# Altium footprint library MEM20800012800A.PcbLib: 1 footprints
Each footprint in its own frame and in the unit in brackets; x right, y up, seen from the top. Pads: shape width x height; smd on the part's side, far side on the other; paste and mask are expansions set on the pad; w line width, h text height; cw(c..) or ccw(c..) is an arc to the next point about the centre after c.
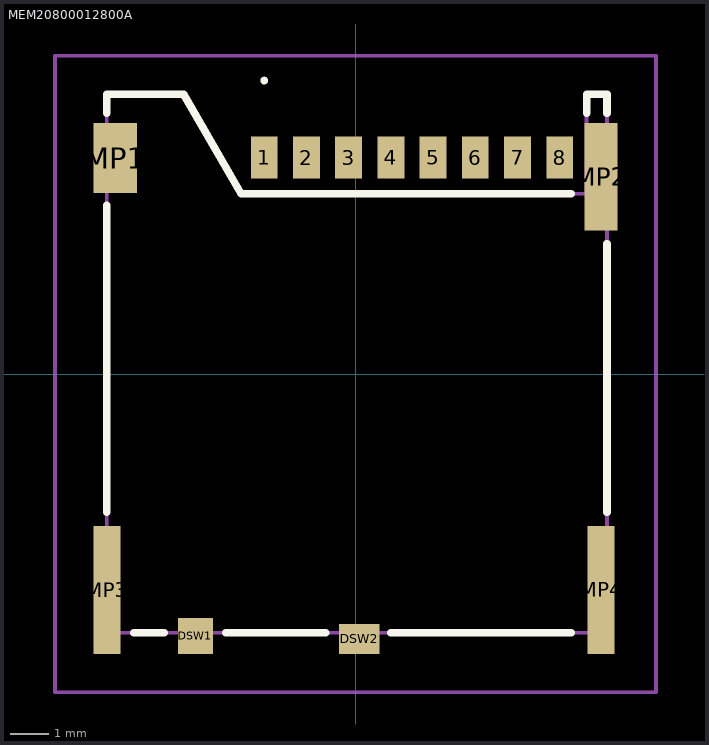
[diagram p0: the footprint, top view; thin cyan lines are the x and y axes]

## MEM20800012800A [mm]
pads (14):
  rect 0.7x1.1 smd: 1(-2.38,5.64) 2(-1.28,5.64) 3(-0.18,5.64) 4(0.92,5.64) 5(2.02,5.64) 6(3.12,5.64) 7(4.22,5.64) 8(5.32,5.64)
  rect 0.9x0.93 smd: DSW1(-4.17,-6.825)
  rect 1.05x0.78 smd: DSW2(0.095,-6.9)
  rect 1.14x1.83 smd: MP1(-6.26,5.625)
  rect 0.86x2.8 smd: MP2(6.4,5.14)
  rect 0.7x3.33 smd: MP3(-6.48,-5.625) MP4(6.4,-5.625)
Top Overlay:
  lines w0.1: -2.38,7.595 -2.38,7.595 ; -2.38,7.595 ccw(c-2.38,7.645) -2.38,7.695 ; -2.38,7.595 cw(c-2.38,7.645) -2.38,7.695 ; -2.38,7.695 -2.38,7.695
  lines w0.2: -6.48,-3.605 -6.48,4.395 ; -6.48,6.795 -6.48,7.29 -4.48,7.29 -2.98,4.695 5.62,4.695 ; -5.78,-6.74 -4.98,-6.74 ; -3.38,-6.74 -0.78,-6.74 ; 0.92,-6.74 5.62,-6.74 ; 6.02,6.795 6.02,7.29 6.55,7.29 6.55,6.795 ; 6.55,-3.605 6.55,3.395
Mechanical 15:
  lines w0.1: -6.51,7.29 -4.48,7.29 -2.98,4.695 6.02,4.695 6.02,7.29 6.55,7.29 6.55,-6.74 -6.48,-6.74 -6.48,7.29
Mechanical 20:
  lines w0.1: -7.83,-8.29 7.83,-8.29 7.83,8.29 -7.83,8.29 -7.83,-8.29